# Altium footprint library FRONT-UNIT-7.PcbLib: 31 footprints (part 2 of 2)
Each footprint in its own frame and in the unit in brackets; x right, y up, seen from the top. Pads: shape width x height; smd on the part's side, far side on the other; paste and mask are expansions set on the pad; w line width, h text height; cw(c..) or ccw(c..) is an arc to the next point about the centre after c.
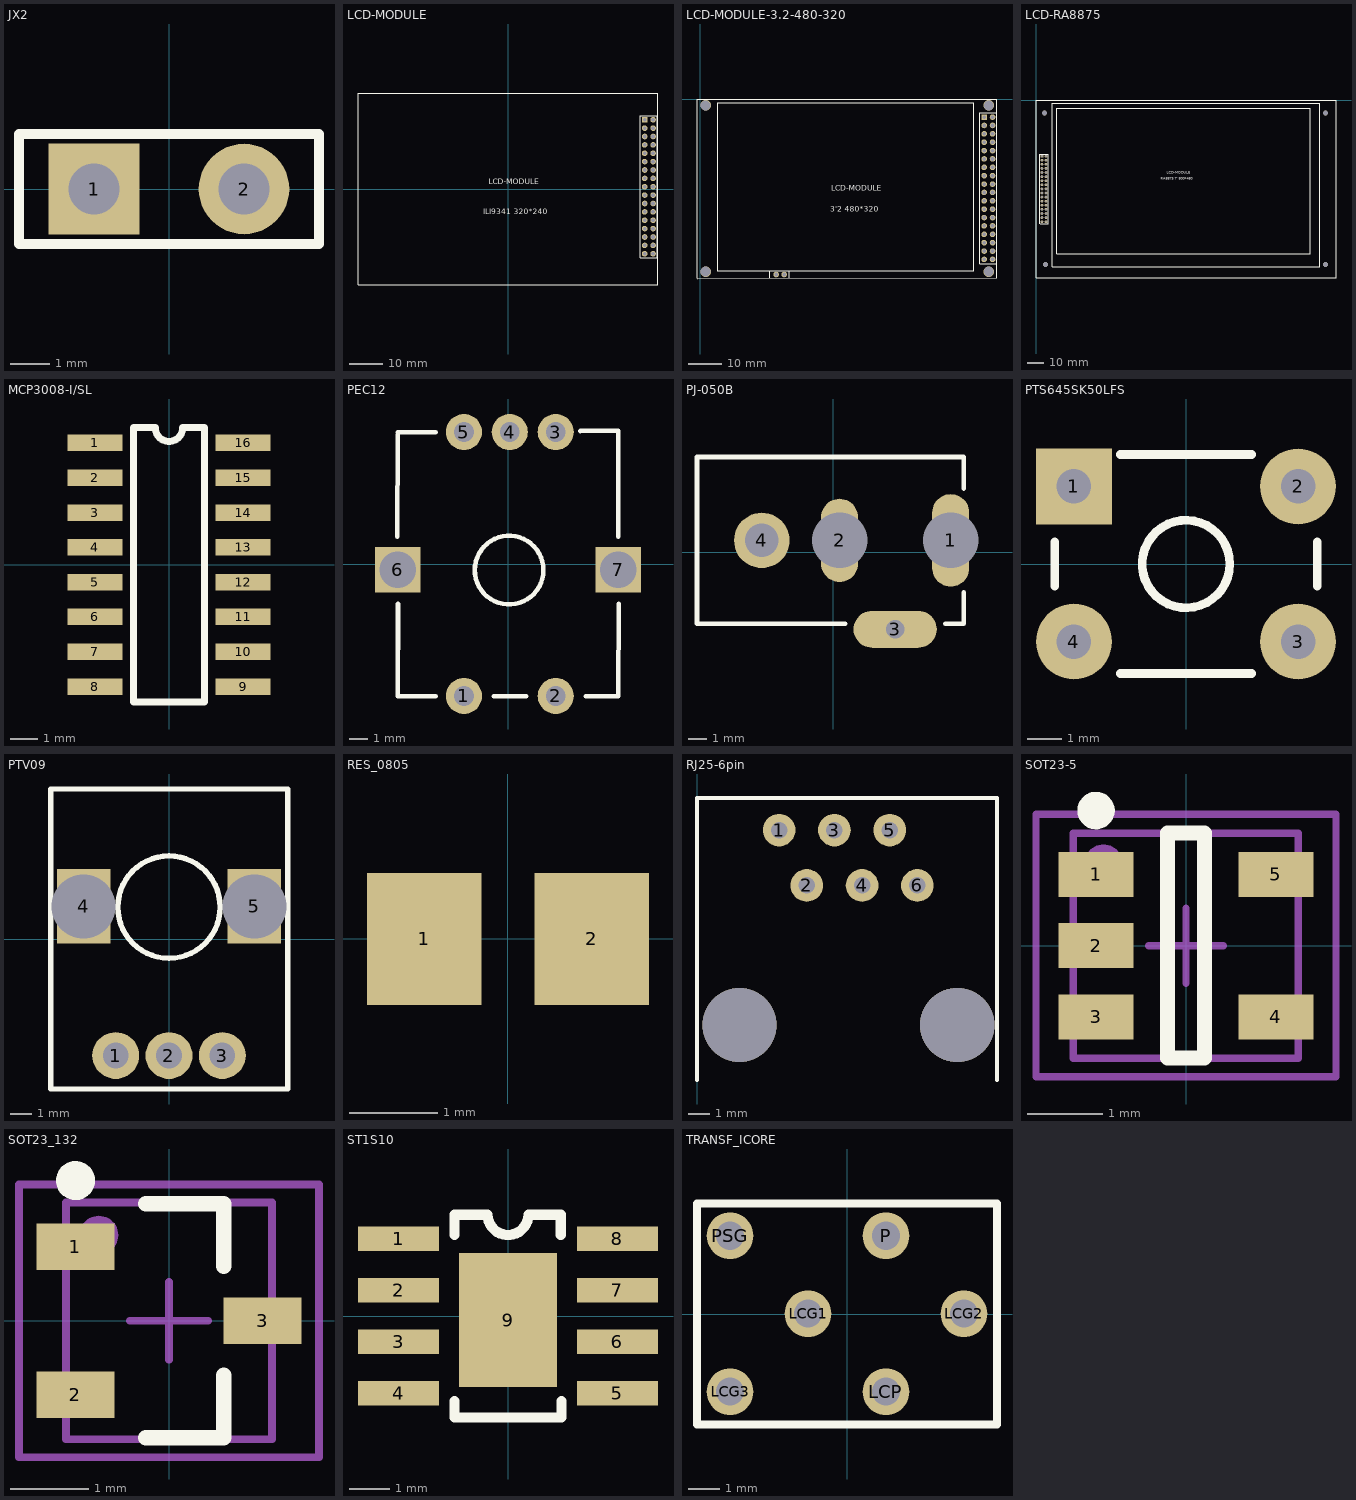
[diagram p1: the footprints below, top view; thin cyan lines are the x and y axes]

## JX2 [mm]
pads (2):
  rect 2.3x2.3 hole 1.3: 1(-1.905,0)
  round 2.3 hole 1.3: 2(1.905,0)
Top Overlay:
  lines w0.254: -3.81,-1.4 3.81,-1.4 3.81,1.4 -3.81,1.4 -3.81,-1.4

## LCD-MODULE [mm]
pads (34):
  rect 1.7x1.7 hole 1.1: 1(41.46,21)
  round 1.7 hole 1.1: 2(44,21) 3(41.46,18.46) 4(44,18.46) 5(41.46,15.92) 6(44,15.92) 7(41.46,13.38) 8(44,13.38) 9(41.46,10.84) 10(44,10.84) 11(41.46,8.3) 12(44,8.3) 13(41.46,5.76) 14(44,5.76) 15(41.46,3.22) 16(44,3.22) 17(41.46,0.68) 18(44,0.68) 19(41.46,-1.86) 20(44,-1.86) 21(41.46,-4.4) 22(44,-4.4) 23(41.46,-6.94) 24(44,-6.94) 25(41.46,-9.48) 26(44,-9.48) 27(41.46,-12.02) 28(44,-12.02) 29(41.46,-14.56) 30(44,-14.56) 31(41.46,-17.1) 32(44,-17.1) 33(41.46,-19.64) 34(44,-19.64)
Top Overlay:
  lines w0.254: -45.5,-29 -45.5,29 45.5,29 45.5,-29 -45.5,-29 ; 40.186,-20.909 40.186,22.272 45.273,22.272 45.273,-20.909 40.186,-20.909
  text "ILI9341 320*240" at -7.532,-7.617 h1.67
  text "LCD-MODULE" at -5.807,1.385 h1.67

## LCD-MODULE-3.2-480-320 [mm]
pads (38):
  rect 1.7x1.7 hole 1.1: 1(86.106,-5.334)
  round 1.7 hole 1.1: 2(88.646,-5.334) 3(86.106,-7.874) 4(88.646,-7.874) 5(86.106,-10.414) 6(88.646,-10.414) 7(86.106,-12.954) 8(88.646,-12.954) 9(86.106,-15.494) 10(88.646,-15.494) 11(86.106,-18.034) 12(88.646,-18.034) 13(86.106,-20.574) 14(88.646,-20.574) 15(86.106,-23.114) 16(88.646,-23.114) 17(86.106,-25.654) 18(88.646,-25.654) 19(86.106,-28.194) 20(88.646,-28.194) 21(86.106,-30.734) 22(88.646,-30.734) 23(86.106,-33.274) 24(88.646,-33.274) 25(86.106,-35.814) 26(88.646,-35.814) 27(86.106,-38.354) 28(88.646,-38.354) 29(86.106,-40.894) 30(88.646,-40.894) 31(86.106,-43.434) 32(88.646,-43.434) 33(86.106,-45.974) 34(88.646,-45.974) 35(86.106,-48.514) 36(88.646,-48.514) 37(23,-53.086) 38(25.416,-53.086)
via 87.5,-1.778 diameter 3.2 hole 3
via 87.5,-52.197 diameter 3.2 hole 3
via 1.6,-52.197 diameter 3.2 hole 3
via 1.6,-1.778 diameter 3.2 hole 3
Top Overlay:
  lines w0.254: -1,-54.3 90,-54 90,0 -1,0 -1,-54.229 ; 21,-54.102 21,-52.07 ; 27,-54.102 27,-52.07 ; 5.08,-51.9 5.08,-1 83,-1 83,-52 5.08,-51.9 ; 84.832,-49.784 89.918,-49.784 89.918,-4.062 84.832,-4.062 84.832,-49.784
  text "LCD-MODULE" at 39.786,-27.698 h1.67
  text "3'2 480*320" at 39.37,-34.036 h1.67

## LCD-RA8875 [mm]
pads (34):
  rect 1.7x1.7 hole 1.1: 1(3.683,-34.798)
  round 1.7 hole 1.1: 2(6.223,-34.798) 3(3.683,-37.338) 4(6.223,-37.338) 5(3.683,-39.878) 6(6.223,-39.878) 7(3.683,-42.418) 8(6.223,-42.418) 9(3.683,-44.958) 10(6.223,-44.958) 11(3.683,-47.498) 12(6.223,-47.498) 13(3.683,-50.038) 14(6.223,-50.038) 15(3.683,-52.578) 16(6.223,-52.578) 17(3.683,-55.118) 18(6.223,-55.118) 19(3.683,-57.658) 20(6.223,-57.658) 21(3.683,-60.198) 22(6.223,-60.198) 23(3.683,-62.738) 24(6.223,-62.738) 25(3.683,-65.278) 26(6.223,-65.278) 27(3.683,-67.818) 28(6.223,-67.818) 29(3.683,-70.358) 30(6.223,-70.358) 31(3.683,-72.898) 32(6.223,-72.898) 33(3.683,-75.438) 34(6.223,-75.438)
via 179.46,-8 diameter 3.2 hole 3
via 179.46,-102.07 diameter 3.2 hole 3
via 5.84,-102.1 diameter 3.2 hole 3
via 5.33,-8 diameter 3.2 hole 3
Top Overlay:
  lines w0.254: 2.409,-76.835 2.409,-33.526 7.495,-33.526 7.495,-76.833 2.54,-76.833 ; 0,-110.36 186.06,-110.36 186.06,0 0,0 0,-110.36 ; 10,-103.36 10,-2 176.06,-2 176.06,-103.36 10,-103.36 ; 13,-95.36 170.06,-95.36 170.06,-5 13,-5 13,-95.36
  text "LCD-MODULE" at 81.153,-45.72 h1.67
  text "RA8875 7' 800*480" at 77.216,-49.403 h1.67

## MCP3008-I/SL [mm]
pads (16):
  rect 2x0.6 smd: 1(-2.7,4.445) 2(-2.7,3.175) 3(-2.7,1.905) 4(-2.7,0.635) 5(-2.7,-0.635) 6(-2.7,-1.905) 7(-2.7,-3.175) 8(-2.7,-4.445) 9(2.7,-4.445) 10(2.7,-3.175) 11(2.7,-1.905) 12(2.7,-0.635) 13(2.7,0.635) 14(2.7,1.905) 15(2.7,3.175) 16(2.7,4.445)
Top Overlay:
  lines w0.254: -1.3,-5 -1.3,5 -0.5,5 ccw(c0,5) 0.5,5 1.3,5 1.3,-5 -1.3,-5

## PEC12 [mm]
pads (7):
  round 2 hole 1.1: 1(-2.44,-7.302) 2(2.64,-7.302) 3(2.64,7.302) 4(0.1,7.302) 5(-2.44,7.302)
  rect 2.5x2.5 hole 2 square: 6(-6.1,-0.318) 7(6.1,-0.318)
Top Overlay:
  circle w0.254: c0.061,-0.338 r1.9
  lines w0.254: -6.12,1.5 -6.101,7.183 ; -6.101,7.283 -6.001,7.283 -4,7.293 ; -6.09,-2.2 -6.101,-7.318 -4,-7.318 ; -0.8,-7.318 1,-7.318 ; 4,7.363 6.101,7.383 6.101,1.5 ; 4.3,-7.318 6.101,-7.318 6.12,-2.2

## PJ-050B [mm]
pads (4):
  oval 2x5 hole 3 square: 1(6.35,0.65)
  oval 2x4.5 hole 3 square: 2(0.35,0.65)
  oval 4.5x2 hole 1 square: 3(3.35,-4.15)
  round 3 hole 1.8: 4(-3.85,0.65)
Top Overlay:
  lines w0.254: 0.65,-3.85 -7.35,-3.85 -7.35,5.15 7.05,5.15 7.05,3.45 ; 6.051,-3.85 7.05,-3.85 7.05,-2.15

## PTS645SK50LFS [mm]
pads (4):
  rect 2.2x2.2 hole 1: 1(-3.25,2.25)
  round 2.2 hole 1: 2(3.25,2.25) 3(3.25,-2.25) 4(-3.25,-2.25)
Top Overlay:
  circle w0.254: c0,0 r1.27
  lines w0.254: -3.81,-0.635 -3.81,0.635 ; -1.904,-3.174 1.904,-3.174 ; -1.904,3.175 1.904,3.175 ; 3.81,-0.635 3.81,0.635

## PTV09 [mm]
pads (5):
  round 2.2 hole 1.2: 1(-2.515,-5.465) 2(-0.015,-5.465) 3(2.485,-5.465)
  rect 2.5x3.5 hole 3 square: 4(-4.015,1.535) 5(3.985,1.535)
Top Overlay:
  circle w0.254: c-0.016,1.496 r2.4
  lines w0.254: -5.555,-7.035 -5.555,7.035 5.555,7.035 5.555,-7.035 -5.555,-7.035

## RES_0805 [mm]
pads (2):
  rect 1.3x1.5 smd: 1(-0.95,0) 2(0.95,0)

## RJ25-6pin [mm]
pads (6):
  round 1.5 hole 0.762: 1(3.77,14.4) 2(5.04,11.86) 3(6.31,14.4) 4(7.58,11.86) 5(8.85,14.4) 6(10.12,11.86)
via 1.95,5.45 diameter 3.4 hole 3.4
via 11.95,5.45 diameter 3.4 hole 3.4
Top Overlay:
  lines w0.2: 0,2.925 0,15.875 13.775,15.875 13.775,2.925
3D body "1773039_1-215876-3.stp": height 11.75, standoff -2.95, extent 0.325,-2.475 13.525,15.625

## SOT23-5 [mm] "SOT23, 5-Leads, Body 2,90x2,80mm, Pitch 0,95mm, IPC Medium Density"
height 1.45
pads (6):
  rect 1x0.6 smd: 1(-1.2,0.95) 2(-1.2,0) 3(-1.2,-0.95) 4(1.2,-0.95) 5(1.2,0.95)
  round 0.5 on Mech1: ""(-1.1,1.1)
Top Overlay:
  circle w0.25: c-1.2,1.8 r0.125
  lines w0.2: -0.25,-1.5 0.25,-1.5 0.25,1.5 -0.25,1.5 -0.25,-1.5
Mechanical 1:
  lines w0.1: -1.5,-1.5 -1.5,1.5 1.5,1.5 1.5,-1.5 -1.5,-1.5
Mechanical 15:
  lines w0.1: -0.5,0 0.5,0 ; 0,-0.5 0,0.5 ; -2,-1.75 -2,1.75 2,1.75 2,-1.75 -2,-1.75
3D body "SOT23-5-1.step": height 1.3, standoff 0, extent -1.5,-1.5 1.5,1.5

## SOT23_132 [mm] "SOT23, 3-Leads, Body 3,0x2,6mm (max), Pitch 0,95mm, IPC Medium Density"
height 1.1
pads (4):
  rect 1x0.6 smd: 1(-1.2,0.95) 2(-1.2,-0.95) 3(1.2,0)
  round 0.5 on Mech1: ""(-0.9,1.1)
Top Overlay:
  circle w0.25: c-1.2,1.8 r0.125
  lines w0.2: -0.3,-1.5 0.7,-1.5 0.7,-0.7 ; -0.3,1.5 0.7,1.5 0.7,0.7
Mechanical 1:
  lines w0.1: -1.32,-1.52 -1.32,1.52 1.32,1.52 1.32,-1.52 -1.32,-1.52
Mechanical 15:
  lines w0.1: -0.5,0 0.5,0 ; 0,-0.5 0,0.5 ; -1.925,-1.75 1.925,-1.75 1.925,1.75 -1.925,1.75 -1.925,-1.75
3D body "SOT95P237X112-3N.step": height 1.12, standoff 0, extent -1.32,-1.52 1.32,1.52

## ST1S10 [mm]
pads (9):
  rect 2x0.6 smd: 1(-2.7,1.905) 2(-2.7,0.635) 3(-2.7,-0.635) 4(-2.7,-1.905) 5(2.7,-1.905) 6(2.7,-0.635) 7(2.7,0.635) 8(2.7,1.905)
  rect 2.41x3.3 smd: 9(0,-0.1)
Top Overlay:
  lines w0.254: -1.317,-2.5 -1.317,-2.1 ; -1.317,2 -1.317,2.5 ; -1.302,-2.5 1.302,-2.5 ; -1.302,2.5 -0.503,2.5 ; -0.503,2.503 ccw(c0,2.503) 0.503,2.503 ; 0.503,2.5 1.302,2.5 1.302,2 ; 1.317,-2.5 1.317,-2.1

## TRANSF_ICORE [mm]
pads (6):
  round 1.5 hole 0.9: LCG1(-1.25,0.01) LCG2(3.75,0.01) LCG3(-3.75,-2.49) LCP(1.25,-2.49) P(1.25,2.51) PSG(-3.75,2.51)
Top Overlay:
  lines w0.254: -4.81,-3.54 4.81,-3.54 4.81,3.54 -4.81,3.54 -4.81,-3.54